# Altium schematic symbol library SCH - MCU - RENESAS - RENESAS R7FS5D97XXXXXXBG 176BGA.SchLib: 1 symbol
Pins are listed as number, name and electrical type; pins without a type are passive.

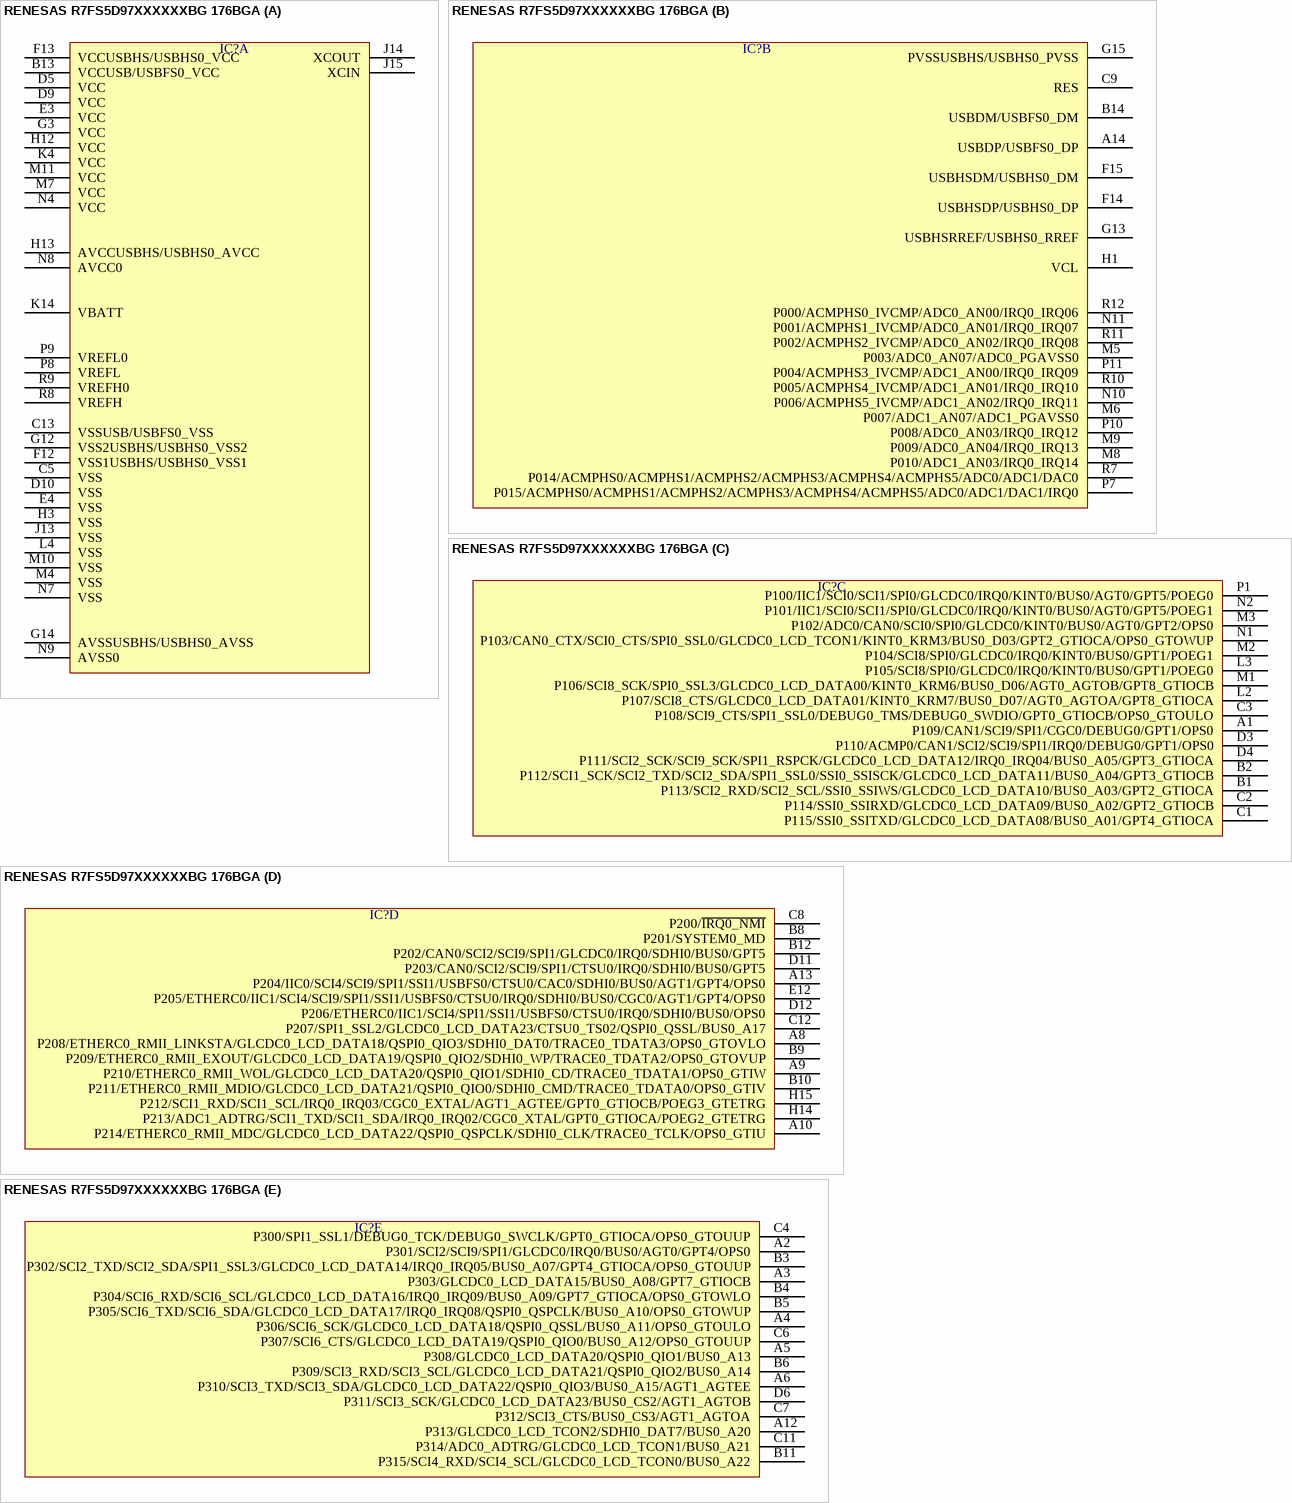
[diagram p0: symbol RENESAS R7FS5D97XXXXXXBG 176BGA]

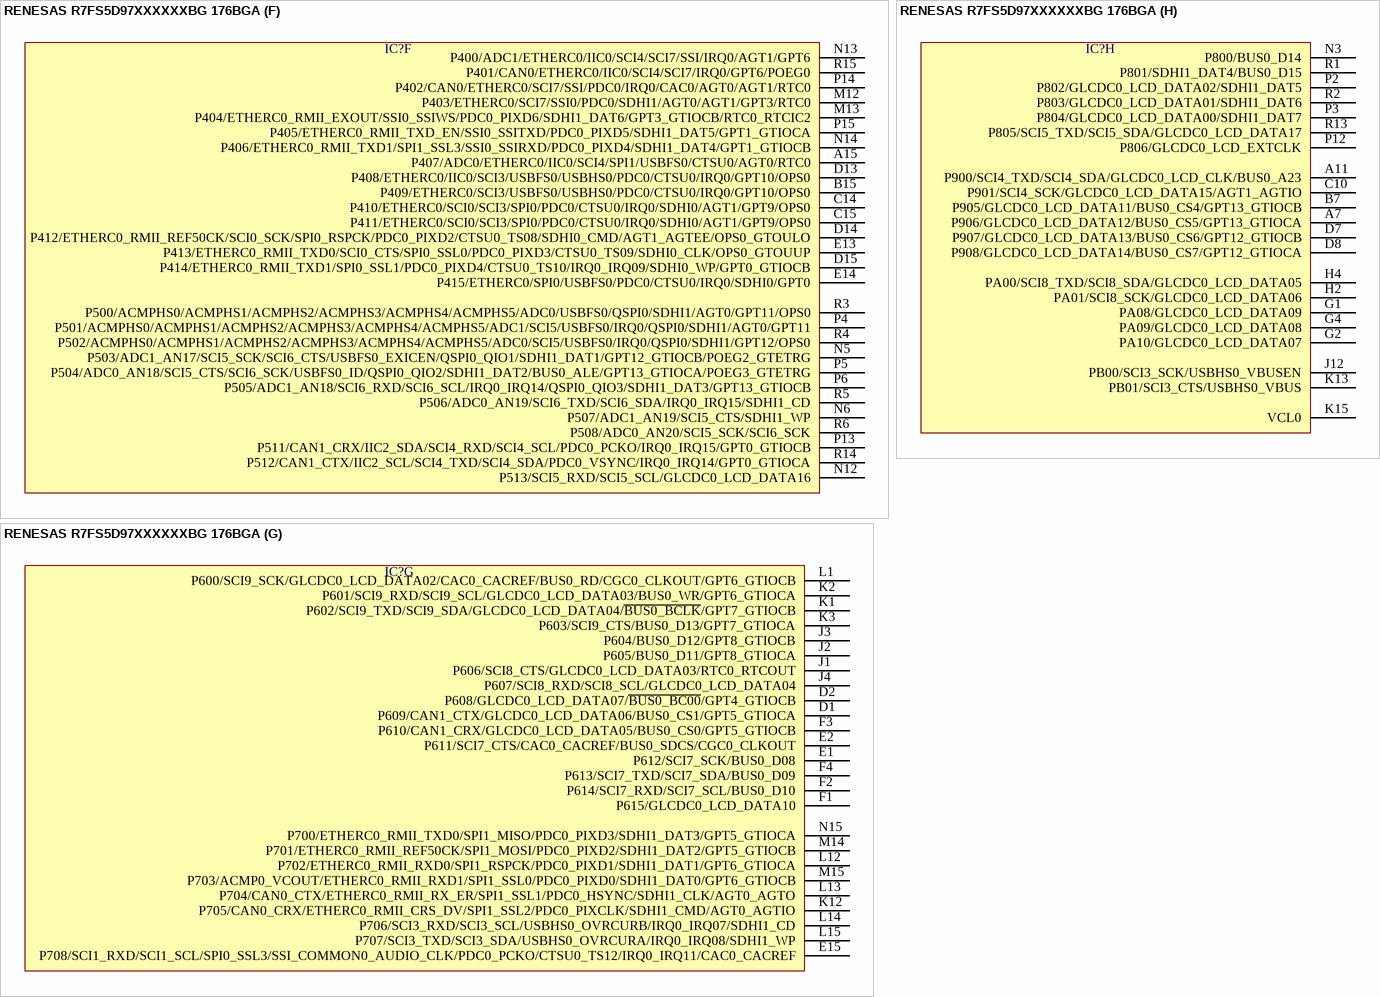
[diagram p1: symbol RENESAS R7FS5D97XXXXXXBG 176BGA]

## RENESAS R7FS5D97XXXXXXBG 176BGA
designator IC?  (value not drawn)
part A pins: B13 VCCUSB/USBFS0_VCC, C5 VSS, C13 VSSUSB/USBFS0_VSS, D5 VCC, D9 VCC, D10 VSS, E3 VCC, E4 VSS, F12 VSS1USBHS/USBHS0_VSS1, F13 VCCUSBHS/USBHS0_VCC, G3 VCC, G12 VSS2USBHS/USBHS0_VSS2, G14 AVSSUSBHS/USBHS0_AVSS, H3 VSS, H12 VCC, H13 AVCCUSBHS/USBHS0_AVCC, J13 VSS, J14 XCOUT, J15 XCIN, K4 VCC, K14 VBATT, L4 VSS, M4 VSS, M7 VCC, M10 VSS, M11 VCC, N4 VCC, N7 VSS, N8 AVCC0, N9 AVSS0, P8 VREFL, P9 VREFL0, R8 VREFH, R9 VREFH0
part B pins: A14 USBDP/USBFS0_DP, B14 USBDM/USBFS0_DM, C9 RES, F14 USBHSDP/USBHS0_DP, F15 USBHSDM/USBHS0_DM, G13 USBHSRREF/USBHS0_RREF, G15 PVSSUSBHS/USBHS0_PVSS, H1 VCL, M5 P003/ADC0_AN07/ADC0_PGAVSS0, M6 P007/ADC1_AN07/ADC1_PGAVSS0, M8 P010/ADC1_AN03/IRQ0_IRQ14, M9 P009/ADC0_AN04/IRQ0_IRQ13, N10 P006/ACMPHS5_IVCMP/ADC1_AN02/IRQ0_IRQ11, N11 P001/ACMPHS1_IVCMP/ADC0_AN01/IRQ0_IRQ07, P7 P015/ACMPHS0/ACMPHS1/ACMPHS2/ACMPHS3/ACMPHS4/ACMPHS5/ADC0/ADC1/DAC1/IRQ0, P10 P008/ADC0_AN03/IRQ0_IRQ12, P11 P004/ACMPHS3_IVCMP/ADC1_AN00/IRQ0_IRQ09, R7 P014/ACMPHS0/ACMPHS1/ACMPHS2/ACMPHS3/ACMPHS4/ACMPHS5/ADC0/ADC1/DAC0, R10 P005/ACMPHS4_IVCMP/ADC1_AN01/IRQ0_IRQ10, R11 P002/ACMPHS2_IVCMP/ADC0_AN02/IRQ0_IRQ08, R12 P000/ACMPHS0_IVCMP/ADC0_AN00/IRQ0_IRQ06
part C pins: A1 P109/CAN1/SCI9/SPI1/CGC0/DEBUG0/GPT1/OPS0, B1 P113/SCI2_RXD/SCI2_SCL/SSI0_SSIWS/GLCDC0_LCD_DATA10/BUS0_A03/GPT2_GTIOCA, B2 P112/SCI1_SCK/SCI2_TXD/SCI2_SDA/SPI1_SSL0/SSI0_SSISCK/GLCDC0_LCD_DATA11/BUS0_A04/GPT3_GTIOCB, C1 P115/SSI0_SSITXD/GLCDC0_LCD_DATA08/BUS0_A01/GPT4_GTIOCA, C2 P114/SSI0_SSIRXD/GLCDC0_LCD_DATA09/BUS0_A02/GPT2_GTIOCB, C3 P108/SCI9_CTS/SPI1_SSL0/DEBUG0_TMS/DEBUG0_SWDIO/GPT0_GTIOCB/OPS0_GTOULO, D3 P110/ACMP0/CAN1/SCI2/SCI9/SPI1/IRQ0/DEBUG0/GPT1/OPS0, D4 P111/SCI2_SCK/SCI9_SCK/SPI1_RSPCK/GLCDC0_LCD_DATA12/IRQ0_IRQ04/BUS0_A05/GPT3_GTIOCA, L2 P107/SCI8_CTS/GLCDC0_LCD_DATA01/KINT0_KRM7/BUS0_D07/AGT0_AGTOA/GPT8_GTIOCA, L3 P105/SCI8/SPI0/GLCDC0/IRQ0/KINT0/BUS0/GPT1/POEG0, M1 P106/SCI8_SCK/SPI0_SSL3/GLCDC0_LCD_DATA00/KINT0_KRM6/BUS0_D06/AGT0_AGTOB/GPT8_GTIOCB, M2 P104/SCI8/SPI0/GLCDC0/IRQ0/KINT0/BUS0/GPT1/POEG1, M3 P102/ADC0/CAN0/SCI0/SPI0/GLCDC0/KINT0/BUS0/AGT0/GPT2/OPS0, N1 P103/CAN0_CTX/SCI0_CTS/SPI0_SSL0/GLCDC0_LCD_TCON1/KINT0_KRM3/BUS0_D03/GPT2_GTIOCA/OPS0_GTOWUP, N2 P101/IIC1/SCI0/SCI1/SPI0/GLCDC0/IRQ0/KINT0/BUS0/AGT0/GPT5/POEG1, P1 P100/IIC1/SCI0/SCI1/SPI0/GLCDC0/IRQ0/KINT0/BUS0/AGT0/GPT5/POEG0
part D pins: A8 P208/ETHERC0_RMII_LINKSTA/GLCDC0_LCD_DATA18/QSPI0_QIO3/SDHI0_DAT0/TRACE0_TDATA3/OPS0_GTOVLO, A9 P210/ETHERC0_RMII_WOL/GLCDC0_LCD_DATA20/QSPI0_QIO1/SDHI0_CD/TRACE0_TDATA1/OPS0_GTIW, A10 P214/ETHERC0_RMII_MDC/GLCDC0_LCD_DATA22/QSPI0_QSPCLK/SDHI0_CLK/TRACE0_TCLK/OPS0_GTIU, A13 P204/IIC0/SCI4/SCI9/SPI1/SSI1/USBFS0/CTSU0/CAC0/SDHI0/BUS0/AGT1/GPT4/OPS0, B8 P201/SYSTEM0_MD, B9 P209/ETHERC0_RMII_EXOUT/GLCDC0_LCD_DATA19/QSPI0_QIO2/SDHI0_WP/TRACE0_TDATA2/OPS0_GTOVUP, B10 P211/ETHERC0_RMII_MDIO/GLCDC0_LCD_DATA21/QSPI0_QIO0/SDHI0_CMD/TRACE0_TDATA0/OPS0_GTIV, B12 P202/CAN0/SCI2/SCI9/SPI1/GLCDC0/IRQ0/SDHI0/BUS0/GPT5, C8 P200/~{IRQ0_NMI}, C12 P207/SPI1_SSL2/GLCDC0_LCD_DATA23/CTSU0_TS02/QSPI0_QSSL/BUS0_A17, D11 P203/CAN0/SCI2/SCI9/SPI1/CTSU0/IRQ0/SDHI0/BUS0/GPT5, D12 P206/ETHERC0/IIC1/SCI4/SPI1/SSI1/USBFS0/CTSU0/IRQ0/SDHI0/BUS0/OPS0, E12 P205/ETHERC0/IIC1/SCI4/SCI9/SPI1/SSI1/USBFS0/CTSU0/IRQ0/SDHI0/BUS0/CGC0/AGT1/GPT4/OPS0, H14 P213/ADC1_ADTRG/SCI1_TXD/SCI1_SDA/IRQ0_IRQ02/CGC0_XTAL/GPT0_GTIOCA/POEG2_GTETRG, H15 P212/SCI1_RXD/SCI1_SCL/IRQ0_IRQ03/CGC0_EXTAL/AGT1_AGTEE/GPT0_GTIOCB/POEG3_GTETRG
part E pins: A2 P301/SCI2/SCI9/SPI1/GLCDC0/IRQ0/BUS0/AGT0/GPT4/OPS0, A3 P303/GLCDC0_LCD_DATA15/BUS0_A08/GPT7_GTIOCB, A4 P306/SCI6_SCK/GLCDC0_LCD_DATA18/QSPI0_QSSL/BUS0_A11/OPS0_GTOULO, A5 P308/GLCDC0_LCD_DATA20/QSPI0_QIO1/BUS0_A13, A6 P310/SCI3_TXD/SCI3_SDA/GLCDC0_LCD_DATA22/QSPI0_QIO3/BUS0_A15/AGT1_AGTEE, A12 P313/GLCDC0_LCD_TCON2/SDHI0_DAT7/BUS0_A20, B3 P302/SCI2_TXD/SCI2_SDA/SPI1_SSL3/GLCDC0_LCD_DATA14/IRQ0_IRQ05/BUS0_A07/GPT4_GTIOCA/OPS0_GTOUUP, B4 P304/SCI6_RXD/SCI6_SCL/GLCDC0_LCD_DATA16/IRQ0_IRQ09/BUS0_A09/GPT7_GTIOCA/OPS0_GTOWLO, B5 P305/SCI6_TXD/SCI6_SDA/GLCDC0_LCD_DATA17/IRQ0_IRQ08/QSPI0_QSPCLK/BUS0_A10/OPS0_GTOWUP, B6 P309/SCI3_RXD/SCI3_SCL/GLCDC0_LCD_DATA21/QSPI0_QIO2/BUS0_A14, B11 P315/SCI4_RXD/SCI4_SCL/GLCDC0_LCD_TCON0/BUS0_A22, C4 P300/SPI1_SSL1/DEBUG0_TCK/DEBUG0_SWCLK/GPT0_GTIOCA/OPS0_GTOUUP, C6 P307/SCI6_CTS/GLCDC0_LCD_DATA19/QSPI0_QIO0/BUS0_A12/OPS0_GTOUUP, C7 P312/SCI3_CTS/BUS0_CS3/AGT1_AGTOA, C11 P314/ADC0_ADTRG/GLCDC0_LCD_TCON1/BUS0_A21, D6 P311/SCI3_SCK/GLCDC0_LCD_DATA23/BUS0_CS2/AGT1_AGTOB
part F pins: A15 P407/ADC0/ETHERC0/IIC0/SCI4/SPI1/USBFS0/CTSU0/AGT0/RTC0, B15 P409/ETHERC0/SCI3/USBFS0/USBHS0/PDC0/CTSU0/IRQ0/GPT10/OPS0, C14 P410/ETHERC0/SCI0/SCI3/SPI0/PDC0/CTSU0/IRQ0/SDHI0/AGT1/GPT9/OPS0, C15 P411/ETHERC0/SCI0/SCI3/SPI0/PDC0/CTSU0/IRQ0/SDHI0/AGT1/GPT9/OPS0, D13 P408/ETHERC0/IIC0/SCI3/USBFS0/USBHS0/PDC0/CTSU0/IRQ0/GPT10/OPS0, D14 P412/ETHERC0_RMII_REF50CK/SCI0_SCK/SPI0_RSPCK/PDC0_PIXD2/CTSU0_TS08/SDHI0_CMD/AGT1_AGTEE/OPS0_GTOULO, D15 P414/ETHERC0_RMII_TXD1/SPI0_SSL1/PDC0_PIXD4/CTSU0_TS10/IRQ0_IRQ09/SDHI0_WP/GPT0_GTIOCB, E13 P413/ETHERC0_RMII_TXD0/SCI0_CTS/SPI0_SSL0/PDC0_PIXD3/CTSU0_TS09/SDHI0_CLK/OPS0_GTOUUP, E14 P415/ETHERC0/SPI0/USBFS0/PDC0/CTSU0/IRQ0/SDHI0/GPT0, M12 P403/ETHERC0/SCI7/SSI0/PDC0/SDHI1/AGT0/AGT1/GPT3/RTC0, M13 P404/ETHERC0_RMII_EXOUT/SSI0_SSIWS/PDC0_PIXD6/SDHI1_DAT6/GPT3_GTIOCB/RTC0_RTCIC2, N5 P503/ADC1_AN17/SCI5_SCK/SCI6_CTS/USBFS0_EXICEN/QSPI0_QIO1/SDHI1_DAT1/GPT12_GTIOCB/POEG2_GTETRG, N6 P507/ADC1_AN19/SCI5_CTS/SDHI1_WP, N12 P513/SCI5_RXD/SCI5_SCL/GLCDC0_LCD_DATA16, N13 P400/ADC1/ETHERC0/IIC0/SCI4/SCI7/SSI/IRQ0/AGT1/GPT6, N14 P406/ETHERC0_RMII_TXD1/SPI1_SSL3/SSI0_SSIRXD/PDC0_PIXD4/SDHI1_DAT4/GPT1_GTIOCB, P4 P501/ACMPHS0/ACMPHS1/ACMPHS2/ACMPHS3/ACMPHS4/ACMPHS5/ADC1/SCI5/USBFS0/IRQ0/QSPI0/SDHI1/AGT0/GPT11, P5 P504/ADC0_AN18/SCI5_CTS/SCI6_SCK/USBFS0_ID/QSPI0_QIO2/SDHI1_DAT2/BUS0_ALE/GPT13_GTIOCA/POEG3_GTETRG, P6 P505/ADC1_AN18/SCI6_RXD/SCI6_SCL/IRQ0_IRQ14/QSPI0_QIO3/SDHI1_DAT3/GPT13_GTIOCB, P13 P511/CAN1_CRX/IIC2_SDA/SCI4_RXD/SCI4_SCL/PDC0_PCKO/IRQ0_IRQ15/GPT0_GTIOCB, P14 P402/CAN0/ETHERC0/SCI7/SSI/PDC0/IRQ0/CAC0/AGT0/AGT1/RTC0, P15 P405/ETHERC0_RMII_TXD_EN/SSI0_SSITXD/PDC0_PIXD5/SDHI1_DAT5/GPT1_GTIOCA, R3 P500/ACMPHS0/ACMPHS1/ACMPHS2/ACMPHS3/ACMPHS4/ACMPHS5/ADC0/USBFS0/QSPI0/SDHI1/AGT0/GPT11/OPS0, R4 P502/ACMPHS0/ACMPHS1/ACMPHS2/ACMPHS3/ACMPHS4/ACMPHS5/ADC0/SCI5/USBFS0/IRQ0/QSPI0/SDHI1/GPT12/OPS0, R5 P506/ADC0_AN19/SCI6_TXD/SCI6_SDA/IRQ0_IRQ15/SDHI1_CD, R6 P508/ADC0_AN20/SCI5_SCK/SCI6_SCK, R14 P512/CAN1_CTX/IIC2_SCL/SCI4_TXD/SCI4_SDA/PDC0_VSYNC/IRQ0_IRQ14/GPT0_GTIOCA, R15 P401/CAN0/ETHERC0/IIC0/SCI4/SCI7/IRQ0/GPT6/POEG0
part G pins: D1 P609/CAN1_CTX/GLCDC0_LCD_DATA06/BUS0_CS1/GPT5_GTIOCA, D2 P608/GLCDC0_LCD_DATA07/~{BUS0_BC00}/GPT4_GTIOCB, E1 P612/SCI7_SCK/BUS0_D08, E2 P611/SCI7_CTS/CAC0_CACREF/BUS0_SDCS/CGC0_CLKOUT, E15 P708/SCI1_RXD/SCI1_SCL/SPI0_SSL3/SSI_COMMON0_AUDIO_CLK/PDC0_PCKO/CTSU0_TS12/IRQ0_IRQ11/CAC0_CACREF, F1 P615/GLCDC0_LCD_DATA10, F2 P614/SCI7_RXD/SCI7_SCL/BUS0_D10, F3 P610/CAN1_CRX/GLCDC0_LCD_DATA05/BUS0_CS0/GPT5_GTIOCB, F4 P613/SCI7_TXD/SCI7_SDA/BUS0_D09, J1 P606/SCI8_CTS/GLCDC0_LCD_DATA03/RTC0_RTCOUT, J2 P605/BUS0_D11/GPT8_GTIOCA, J3 P604/BUS0_D12/GPT8_GTIOCB, J4 P607/SCI8_RXD/SCI8_SCL/GLCDC0_LCD_DATA04, K1 P602/SCI9_TXD/SCI9_SDA/GLCDC0_LCD_DATA04/~{BUS0_BCLK}/GPT7_GTIOCB, K2 P601/SCI9_RXD/SCI9_SCL/GLCDC0_LCD_DATA03/BUS0_WR/GPT6_GTIOCA, K3 P603/SCI9_CTS/BUS0_D13/GPT7_GTIOCA, K12 P705/CAN0_CRX/ETHERC0_RMII_CRS_DV/SPI1_SSL2/PDC0_PIXCLK/SDHI1_CMD/AGT0_AGTIO, L1 P600/SCI9_SCK/GLCDC0_LCD_DATA02/CAC0_CACREF/BUS0_RD/CGC0_CLKOUT/GPT6_GTIOCB, L12 P702/ETHERC0_RMII_RXD0/SPI1_RSPCK/PDC0_PIXD1/SDHI1_DAT1/GPT6_GTIOCA, L13 P704/CAN0_CTX/ETHERC0_RMII_RX_ER/SPI1_SSL1/PDC0_HSYNC/SDHI1_CLK/AGT0_AGTO, L14 P706/SCI3_RXD/SCI3_SCL/USBHS0_OVRCURB/IRQ0_IRQ07/SDHI1_CD, L15 P707/SCI3_TXD/SCI3_SDA/USBHS0_OVRCURA/IRQ0_IRQ08/SDHI1_WP, M14 P701/ETHERC0_RMII_REF50CK/SPI1_MOSI/PDC0_PIXD2/SDHI1_DAT2/GPT5_GTIOCB, M15 P703/ACMP0_VCOUT/ETHERC0_RMII_RXD1/SPI1_SSL0/PDC0_PIXD0/SDHI1_DAT0/GPT6_GTIOCB, N15 P700/ETHERC0_RMII_TXD0/SPI1_MISO/PDC0_PIXD3/SDHI1_DAT3/GPT5_GTIOCA
part H pins: A7 P906/GLCDC0_LCD_DATA12/BUS0_CS5/GPT13_GTIOCA, A11 P900/SCI4_TXD/SCI4_SDA/GLCDC0_LCD_CLK/BUS0_A23, B7 P905/GLCDC0_LCD_DATA11/BUS0_CS4/GPT13_GTIOCB, C10 P901/SCI4_SCK/GLCDC0_LCD_DATA15/AGT1_AGTIO, D7 P907/GLCDC0_LCD_DATA13/BUS0_CS6/GPT12_GTIOCB, D8 P908/GLCDC0_LCD_DATA14/BUS0_CS7/GPT12_GTIOCA, G1 PA08/GLCDC0_LCD_DATA09, G2 PA10/GLCDC0_LCD_DATA07, G4 PA09/GLCDC0_LCD_DATA08, H2 PA01/SCI8_SCK/GLCDC0_LCD_DATA06, H4 PA00/SCI8_TXD/SCI8_SDA/GLCDC0_LCD_DATA05, J12 PB00/SCI3_SCK/USBHS0_VBUSEN, K13 PB01/SCI3_CTS/USBHS0_VBUS, K15 VCL0, N3 P800/BUS0_D14, P2 P802/GLCDC0_LCD_DATA02/SDHI1_DAT5, P3 P804/GLCDC0_LCD_DATA00/SDHI1_DAT7, P12 P806/GLCDC0_LCD_EXTCLK, R1 P801/SDHI1_DAT4/BUS0_D15, R2 P803/GLCDC0_LCD_DATA01/SDHI1_DAT6, R13 P805/SCI5_TXD/SCI5_SDA/GLCDC0_LCD_DATA17